# EAGLE library part 615016240521 (library InputOutputIO (rev18b))
WR-MJ Horizontal Shielded Dual Stacked Port with EMI Panel Finger 8P8C Modular Jack Tab Up & Down, 16 Pins=>Code : Con_I-O_MJ-H_Shielded_Up-Down_615016240521 <http://katalog.we-online.de/media/images/eican/Con_I-O_MJ-H_Shielded_Up-Down_615016240521_pf2.jpg> Details see: http://katalog.we-online.de/en/em/MJ_HORIZONTAL_SHIELDED_DUAL_STACKED_PORT_EMI_FINGER_8P8C_TAB_UP_DOWN Created 2014-07-10, Karrer Zheng 2014 (C) Würth Elektronik
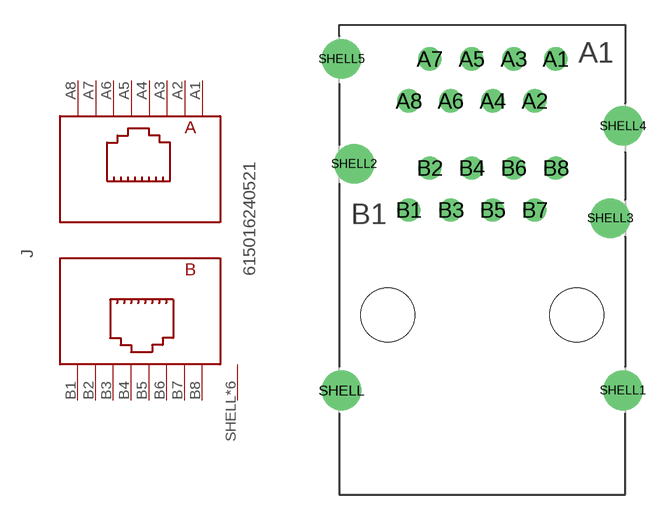
[diagram p125: symbol with the pads of 615016240521; footprint 615016240521]

Designator prefix J

## 615016240521  [615016240521]
A1  A8  pas
A2  A7  pas
A3  A6  pas
A4  A5  pas
A5  A4  pas
A6  A3  pas
A7  A2  pas
A8  A1  pas
B1  B8  pas
B2  B7  pas
B3  B6  pas
B4  B5  pas
B5  B4  pas
B6  B3  pas
B7  B2  pas
B8  B1  pas
SHELL  SHIELD  pas
SHELL1  SHIELD  pas
SHELL2  SHIELD  pas
SHELL3  SHIELD  pas
SHELL4  SHIELD  pas
SHELL5  SHIELD  pas

## Footprint 615016240521 (pad centres in mm)
WR-MJ Horizontal Shielded Dual Stacked Port with EMI Panel Finger 8P8C Modular Jack Tab Up & Down, 16 Pins
drill 0.9: A1 4.445,4.06; A2 3.175,1.52; A3 1.905,4.06; A4 0.635,1.52; A5 -0.635,4.06; A6 -1.905,1.52; A7 -3.175,4.06; A8 -4.445,1.52; B1 -4.445,-5.08; B2 -3.175,-2.54; B3 -1.905,-5.08; B4 -0.635,-2.54; B5 0.635,-5.08; B6 1.905,-2.54; B7 3.175,-5.08; B8 4.445,-2.54
drill 1.6: SHELL -8.505,-16; SHELL1 8.505,-16; SHELL2 -7.745,-2.29; SHELL3 7.745,-5.58; SHELL4 8.505,0; SHELL5 -8.505,4.06
hole 3.25 at -5.715,-11.43
hole 3.25 at 5.715,-11.43